# EAGLE library part LM3409HV (library 2015_LED_Driver)
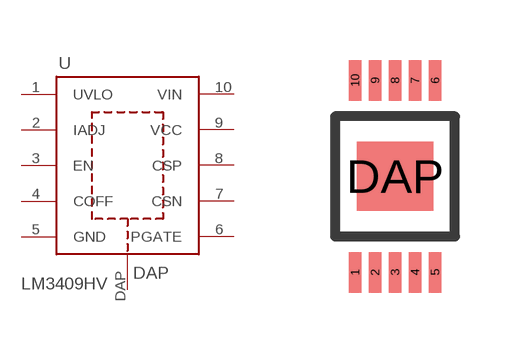
[diagram p0: symbol with the pads of VSSOP-10; footprint VSSOP-10]

Designator prefix U

## LM3409HV'LM3409HV'  [VSSOP-10]
1  UVLO
2  IADJ
3  EN
4  COFF
5  GND
6  PGATE
7  CSN
8  CSP
9  VCC
10  VIN
DAP  DAP

## Footprint VSSOP-10 (pad centres in mm)
smd 0.305 x 1.016: 1 -1.001,-2.4; 2 -0.5,-2.4; 3 0,-2.4; 4 0.5,-2.4; 5 1.001,-2.4; 6 1.001,2.4; 7 0.5,2.4; 8 0,2.4; 9 -0.5,2.4; 10 -1.001,2.4
smd 1.905 x 1.727: DAP 0,0